# Altium footprint library QFP.PcbLib: 102 footprints (part 3 of 7)
Each footprint in its own frame and in the unit in brackets; x right, y up, seen from the top. Pads: shape width x height; smd on the part's side, far side on the other; paste and mask are expansions set on the pad; w line width, h text height; cw(c..) or ccw(c..) is an arc to the next point about the centre after c.
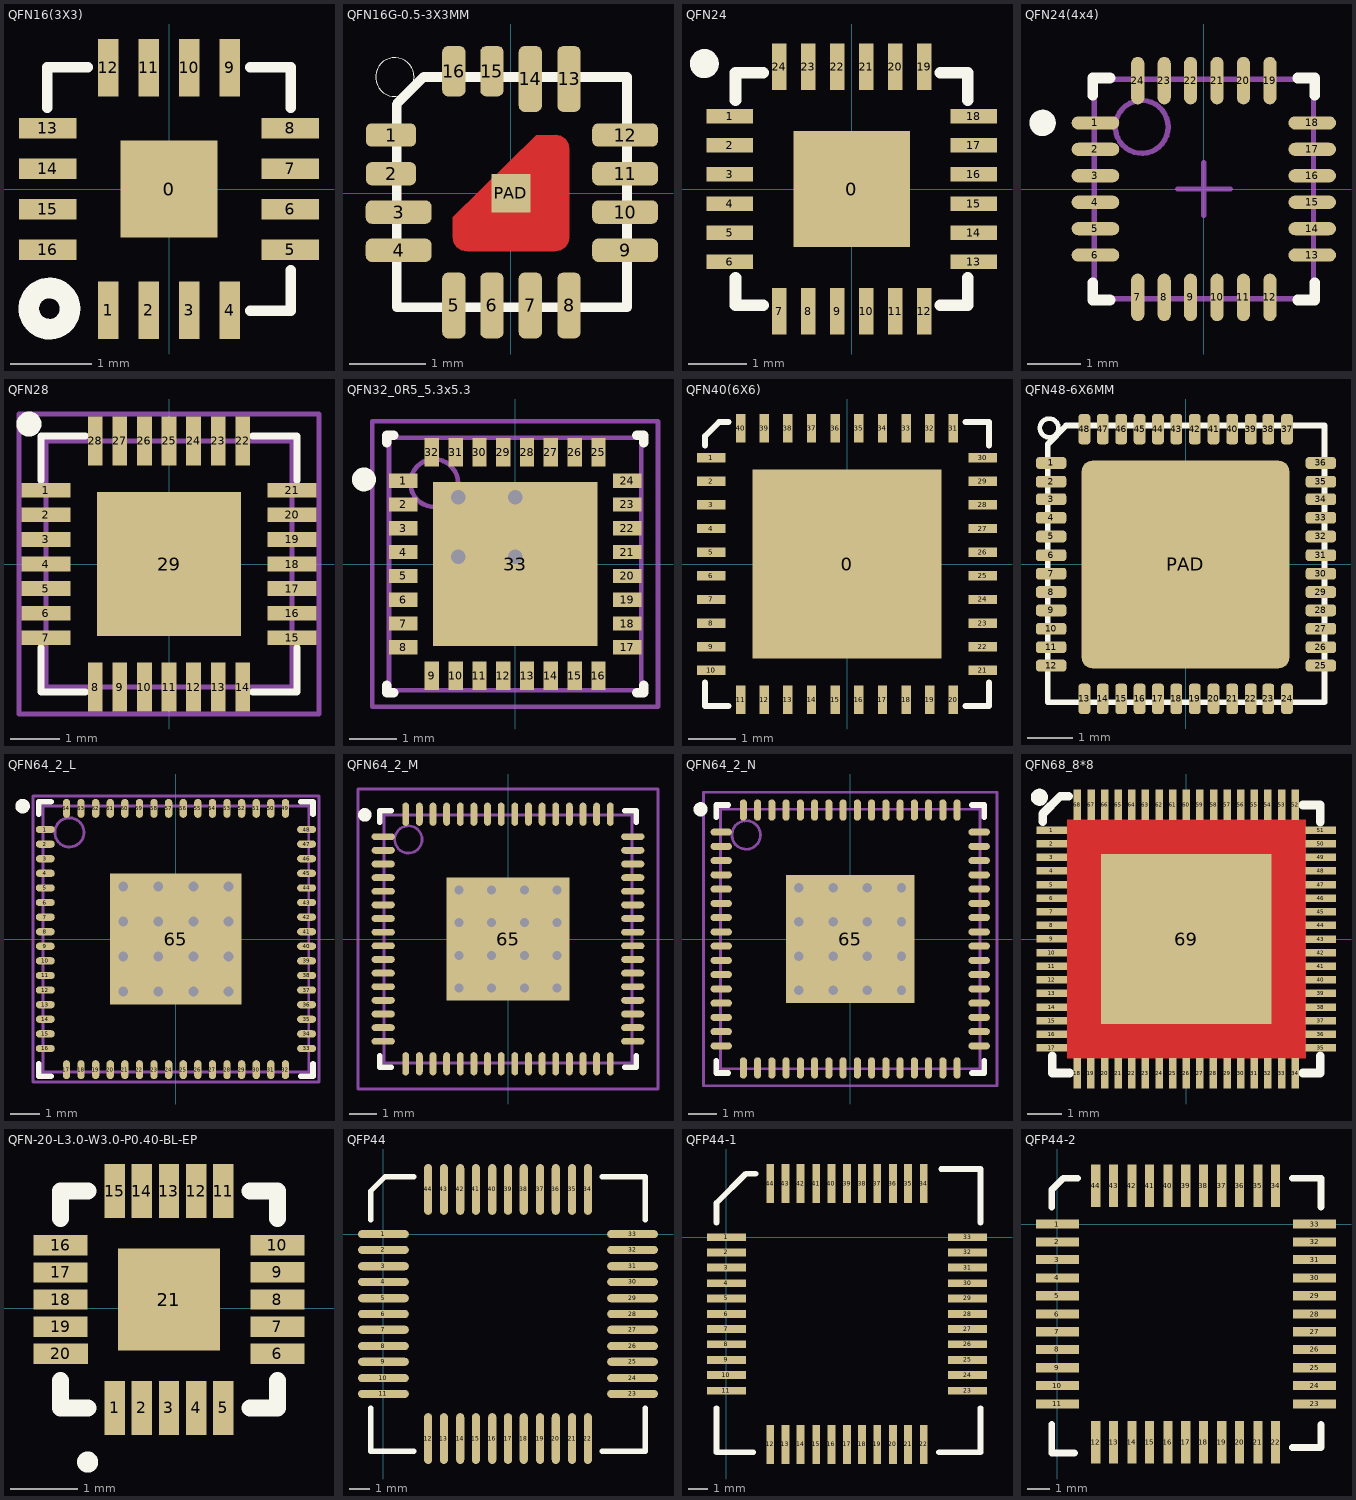
[diagram p2: the footprints below, top view; thin cyan lines are the x and y axes]

## QFN16(3X3) [mil]
pads (17):
  rect 47.24x47.24 smd: 0(0,0)
  rect 10x28 smd: 1(-29.53,-58.74) 2(-9.84,-58.74) 3(9.84,-58.74) 4(29.53,-58.74) 9(29.53,58.74) 10(9.84,58.74) 11(-9.84,58.74) 12(-29.53,58.74)
  rect 28x10 smd: 5(58.74,-29.53) 6(58.74,-9.84) 7(58.74,9.84) 8(58.74,29.53) 13(-58.74,29.53) 14(-58.74,9.84) 15(-58.74,-9.84) 16(-58.74,-29.53)
Top Overlay:
  circle w10: c-58,-58 r10
  lines w5: -59.06,39.37 -59.06,59.06 -39.37,59.06 ; 39.37,-59.06 59.06,-59.06 59.06,-39.37 ; 39.37,59.06 59.06,59.06 59.06,39.37

## QFN16G-0.5-3X3MM [mil] "QFN16G-0.5-3X3MM"
pads (17):
  rrect50% 26x12 smd: 1(-62.01,30) 2(-62.01,10)
  rrect50% 34x12 smd: 3(-58.07,-9.84) 4(-58.07,-29.53) 9(59,-29.53) 10(59,-9.84) 11(59,10) 12(59,30)
  rrect50% 12x34 smd: 5(-29.53,-58.07) 6(-9.84,-58.07) 7(10,-58.07) 8(30,-58.07) 13(30,59) 14(10,59)
  rrect50% 12x26 smd: 15(-9.84,63) 16(-29.53,63)
  rect 20x20 smd: PAD(0,0)
Top Layer:
  region: 15,30 23,30.14 25.73,29.59 28.05,28.05 29.59,25.73 30.14,23 30,23 30.13,-22.93 30.14,-22.96 29.59,-25.71 28.04,-28.04 25.71,-29.59 23,-30.13 23,-30 -22.93,-30.14 -25.69,-29.59 -28.03,-28.03 -29.59,-25.69 -30.14,-22.93 -30,-22.93 -30,-12.43 13,30
Top Overlay:
  circle w0: c-60,60 r10
  lines w5: -59.06,-59.06 60,-59.06 60,60 -45.14,60 -59.06,46 -59.06,-59.06
Top Solder:
  region: 13,30 23,30.14 25.73,29.59 28.05,28.05 29.59,25.73 30.14,23 30,23 30.13,-22.93 30.14,-22.96 29.59,-25.71 28.04,-28.04 25.71,-29.59 23,-30.13 23,-30 -22.93,-30.14 -25.69,-29.59 -28.03,-28.03 -29.59,-25.69 -30.14,-22.93 -30,-22.93 -30,-12.43
  region: -3.94,75 -3.62,52 -3.61,51.97 -4.87,48.93 -7.87,47.69 -7.87,48 -11.81,47.69 -14.82,48.93 -16.08,51.97 -16.06,52 -15.75,52 -16.06,75 -16.08,75.03 -14.82,78.07 -11.81,79.31 -11.81,79 -7.87,79.31 -4.87,78.07 -3.61,75.03 -3.62,75
  region: -23.62,75 -23.31,52 -23.29,51.97 -24.55,48.93 -27.56,47.69 -27.56,48 -31.5,47.69 -34.5,48.93 -35.76,51.97 -35.75,52 -35.43,52 -35.75,75 -35.76,75.03 -34.5,78.07 -31.5,79.31 -31.5,79 -27.56,79.31 -24.55,78.07 -23.29,75.03 -23.31,75
  region: -74.8,36 -51.18,36.31 -48.18,35.07 -46.92,32.03 -46.93,32 -47.24,32 -46.93,28 -46.92,27.97 -48.18,24.93 -51.18,23.69 -51.18,24 -74.81,23.69 -77.81,24.93 -79.07,27.97 -79.05,28 -78.74,28 -79.05,32 -79.07,32.03 -77.81,35.07 -74.81,36.31
  region: -74.8,16 -51.18,16.31 -48.18,15.07 -46.92,12.03 -46.93,12 -47.24,12 -46.93,8 -46.92,7.97 -48.18,4.93 -51.18,3.69 -51.18,4 -74.81,3.69 -77.81,4.93 -79.07,7.97 -79.05,8 -78.74,8 -79.05,12 -79.07,12.03 -77.81,15.07 -74.81,16.31
Mechanical 2:
Mechanical 4:

## QFN24 [mm]
pads (25):
  rect 2x2 smd: 0(0,0)
  rect 0.8x0.25 smd: 1(-2.101,1.25) 2(-2.101,0.75) 3(-2.101,0.25) 4(-2.101,-0.25) 5(-2.101,-0.75) 6(-2.101,-1.25) 13(2.101,-1.25) 14(2.101,-0.75) 15(2.101,-0.25) 16(2.101,0.25) 17(2.101,0.75) 18(2.101,1.25)
  rect 0.25x0.8 smd: 7(-1.25,-2.101) 8(-0.75,-2.101) 9(-0.25,-2.101) 10(0.25,-2.101) 11(0.75,-2.101) 12(1.25,-2.101) 19(1.25,2.101) 20(0.75,2.101) 21(0.25,2.101) 22(-0.25,2.101) 23(-0.75,2.101) 24(-1.25,2.101)
Top Overlay:
  circle w0.25: c-2.538,2.159 r0.125
  lines w0.2: -2,-1.525 -2,-2 -1.525,-2 ; -2,1.525 -2,2 -1.525,2 ; 1.525,-2 2,-2 2,-1.525 ; 1.525,2 2,2 2,1.525

## QFN24(4x4) [mm]
pads (24):
  oval 0.9x0.25 smd: 1(-2.05,1.25) 2(-2.05,0.75) 3(-2.05,0.25) 4(-2.05,-0.25) 5(-2.05,-0.75) 6(-2.05,-1.25) 13(2.05,-1.25) 14(2.05,-0.75) 15(2.05,-0.25) 16(2.05,0.25) 17(2.05,0.75) 18(2.05,1.25)
  oval 0.25x0.9 smd: 7(-1.25,-2.05) 8(-0.75,-2.05) 9(-0.25,-2.05) 10(0.25,-2.05) 11(0.75,-2.05) 12(1.25,-2.05) 19(1.25,2.05) 20(0.75,2.05) 21(0.25,2.05) 22(-0.25,2.05) 23(-0.75,2.05) 24(-1.25,2.05)
Top Overlay:
  circle w0.25: c-3.05,1.25 r0.125
  lines w0.2: -2.1,-1.775 -2.1,-2.1 -1.775,-2.1 ; -2.1,1.775 -2.1,2.1 -1.775,2.1 ; 1.775,-2.1 2.1,-2.1 2.1,-1.775 ; 1.775,2.1 2.1,2.1 2.1,1.775
Mechanical 13:
  circle w0.1: c-1.175,1.175 r0.5
  lines w0.1: -2.075,-2.075 -2.075,2.075 2.075,2.075 2.075,-2.075 -2.075,-2.075
Mechanical 15:
  lines w0.1: -0.5,0 0.5,0 ; 0,-0.5 0,0.5
3D body: height 1, standoff 0, extent -2.032,-2.118 2.118,2.032

## QFN28 [mm]
height 1
pads (29):
  rect 1x0.3 smd: 1(-2.5,1.5) 2(-2.5,1) 3(-2.5,0.5) 4(-2.5,0) 5(-2.5,-0.5) 6(-2.5,-1) 7(-2.5,-1.5) 15(2.5,-1.5) 16(2.5,-1) 17(2.5,-0.5) 18(2.5,0) 19(2.5,0.5) 20(2.5,1) 21(2.5,1.5)
  rect 0.3x1 smd: 8(-1.5,-2.5) 9(-1,-2.5) 10(-0.5,-2.5) 11(0,-2.5) 12(0.5,-2.5) 13(1,-2.5) 14(1.5,-2.5) 22(1.5,2.5) 23(1,2.5) 24(0.5,2.5) 25(0,2.5) 26(-0.5,2.5) 27(-1,2.5) 28(-1.5,2.5)
  rect 2.921x2.921 smd paste-3.2: 29(0,0)
Top Overlay:
  circle w0.254: c-2.844,2.844 r0.127
  lines w0.15: -2.6,-1.7 -2.6,-2.6 -1.7,-2.6 ; -2.6,1.7 -2.6,2.6 ; -2.591,2.6 -1.7,2.6 ; 1.7,-2.6 2.6,-2.6 2.6,-1.7 ; 1.7,2.6 2.6,2.6 2.6,1.7
Top Paste:
  region: 1.524,-0.381 1.524,0.381 0.762,0.381 0.762,-0.381
  region: -0.762,-0.381 -0.762,0.381 -1.524,0.381 -1.524,-0.381
  region: 0.381,-0.381 0.381,0.381 -0.381,0.381 -0.381,-0.381
  region: 1.524,-1.524 1.524,-0.762 0.762,-0.762 0.762,-1.524
  region: 0.381,-1.524 0.381,-0.762 -0.381,-0.762 -0.381,-1.524
  region: -1.524,-1.524 -0.762,-1.524 -0.762,-0.762 -1.524,-0.762
  region: -1.524,0.762 -0.762,0.762 -0.762,1.524 -1.524,1.524
  region: -0.381,1.524 -0.381,0.762 0.381,0.762 0.381,1.524
  region: 0.762,1.524 0.762,0.762 1.524,0.762 1.524,1.524
Mechanical 13:
  lines w0.1: -2.5,-2.5 2.5,-2.5 2.5,2.5 -2.5,2.5 -2.5,-2.5
Mechanical 15:
  lines w0.1: -0.5,0 0.5,0 ; 0,-0.5 0,0.5 ; -3.048,-3.048 3.048,-3.048 3.048,3.048 -3.048,3.048 -3.048,-3.048
3D body: height 1, standoff 0, extent -2.5,-2.5 2.5,2.5

## QFN32_0R5_5.3x5.3 [mm] "QFN, 32-Leads, Body 5.3x5.3mm (max), Pitch 0.50mm, IPC Medium Density"
height 1.6
pads (33):
  rect 0.6x0.3 smd: 1(-2.35,1.75) 2(-2.35,1.25) 3(-2.35,0.75) 4(-2.35,0.25) 5(-2.35,-0.25) 6(-2.35,-0.75) 7(-2.35,-1.25) 8(-2.35,-1.75) 17(2.35,-1.75) 18(2.35,-1.25) 19(2.35,-0.75) 20(2.35,-0.25) 21(2.35,0.25) 22(2.35,0.75) 23(2.35,1.25) 24(2.35,1.75)
  rect 0.3x0.6 smd: 9(-1.75,-2.35) 10(-1.25,-2.35) 11(-0.75,-2.35) 12(-0.25,-2.35) 13(0.25,-2.35) 14(0.75,-2.35) 15(1.25,-2.35) 16(1.75,-2.35) 25(1.75,2.35) 26(1.25,2.35) 27(0.75,2.35) 28(0.25,2.35) 29(-0.25,2.35) 30(-0.75,2.35) 31(-1.25,2.35) 32(-1.75,2.35)
  rect 3.45x3.45 smd: 33(0,0)
via -1.194,0.152 diameter 0.508 hole 0.305
via 0,0.152 diameter 0.508 hole 0.305
via -1.194,1.397 diameter 0.508 hole 0.305
via 0,1.397 diameter 0.508 hole 0.305
Top Overlay:
  circle w0.25: c-3.175,1.776 r0.125
  lines w0.2: -2.7,-2.55 -2.7,-2.7 -2.55,-2.7 ; -2.7,2.55 -2.7,2.7 -2.55,2.7 ; 2.55,-2.7 2.7,-2.7 2.7,-2.55 ; 2.55,2.7 2.7,2.7 2.7,2.55
Mechanical 13:
  circle w0.1: c-1.7,1.7 r0.5
  lines w0.1: -2.65,-2.65 -2.65,2.65 2.65,2.65 2.65,-2.65 -2.65,-2.65
Mechanical 15:
  lines w0.1: -0.5,0 0.5,0 ; 0,-0.5 0,0.5 ; -3,-3 -3,3 3,3 3,-3 -3,-3

## QFN40(6X6) [mm]
pads (41):
  rect 4x4 smd: 0(0,0)
  rect 0.6x0.2 smd: 1(-2.87,2.25) 2(-2.87,1.75) 3(-2.87,1.25) 4(-2.87,0.75) 5(-2.87,0.25) 6(-2.87,-0.25) 7(-2.87,-0.75) 8(-2.87,-1.25) 9(-2.87,-1.75) 10(-2.87,-2.25) 21(2.87,-2.25) 22(2.87,-1.75) 23(2.87,-1.25) 24(2.87,-0.75) 25(2.87,-0.25) 26(2.87,0.25) 27(2.87,0.75) 28(2.87,1.25) 29(2.87,1.75) 30(2.87,2.25)
  rect 0.2x0.6 smd: 11(-2.25,-2.87) 12(-1.75,-2.87) 13(-1.25,-2.87) 14(-0.75,-2.87) 15(-0.25,-2.87) 16(0.25,-2.87) 17(0.75,-2.87) 18(1.25,-2.87) 19(1.75,-2.87) 20(2.25,-2.87) 31(2.25,2.87) 32(1.75,2.87) 33(1.25,2.87) 34(0.75,2.87) 35(0.25,2.87) 36(-0.25,2.87) 37(-0.75,2.87) 38(-1.25,2.87) 39(-1.75,2.87) 40(-2.25,2.87)
Top Overlay:
  lines w0.127: -3,-2.5 -3,-3 -2.5,-3 ; -3,2.5 -3,2.7 -2.7,3 -2.5,3 ; 2.5,-3 3,-3 3,-2.5 ; 2.5,3 3,3 3,2.5

## QFN48-6X6MM [mil] "QFN48-6X6MM"
pads (49):
  rrect50% 26x10 smd: 1(-115.16,87) 2(-115.16,71) 3(-115.16,56) 4(-115.16,40) 5(-115.16,24) 6(-115.16,8) 7(-115.16,-7.87) 8(-115.16,-23.62) 9(-115.16,-39.37) 10(-115.16,-55.12) 11(-115.16,-70.87) 12(-115.16,-86.61) 25(116,-86.61) 26(116,-70.87) 27(116,-55.12) 28(116,-39.37) 29(116,-23.62) 30(116,-7.87) 31(116,8) 32(116,24) 33(116,40) 34(116,56) 35(116,71) 36(116,87)
  rrect50% 10x26 smd: 13(-86.61,-115.16) 14(-70.87,-115.16) 15(-55.12,-115.16) 16(-39.37,-115.16) 17(-23.62,-115.16) 18(-7.87,-115.16) 19(8,-115.16) 20(24,-115.16) 21(40,-115.16) 22(56,-115.16) 23(71,-115.16) 24(87,-115.16) 37(87,116) 38(71,116) 39(56,116) 40(40,116) 41(24,116) 42(8,116) 43(-7.87,116) 44(-23.62,116) 45(-39.37,116) 46(-55.12,116) 47(-70.87,116) 48(-86.61,116)
  rrect10% 178x178 smd: PAD(0,0)
Top Overlay:
  circle w4: c-116.89,117 r8
  lines w5: -118.11,-118.11 119,-118.11 119,119 -102.36,119 -118.11,103 -118.11,-118.11
Top Paste:
  region: -68.9,-33.46 -68.9,-68.9 -33.46,-68.9 -33.46,-33.46
  region: -68.68,69.22 -68.68,33.78 -33.68,33.78 -33.68,69.22
  region: 33.78,-33.68 33.78,-68.68 69.22,-68.68 69.22,-33.68
  region: 34,69 34,34 69,34 69,69
  region: -17.72,18 -17.72,-17.72 18,-17.72 18,18
Mechanical 2:
Mechanical 4:
  text ">VALUE" at -88.58,76 h18.6

## QFN64_2_L [mm] "QFN, 64-Leads, Body 9x9mm, Pitch 0.5mm, IPC High Density"
height 1
pads (65):
  oval 0.65x0.25 smd: 1(-4.475,3.75) 2(-4.475,3.25) 3(-4.475,2.75) 4(-4.475,2.25) 5(-4.475,1.75) 6(-4.475,1.25) 7(-4.475,0.75) 8(-4.475,0.25) 9(-4.475,-0.25) 10(-4.475,-0.75) 11(-4.475,-1.25) 12(-4.475,-1.75) 13(-4.475,-2.25) 14(-4.475,-2.75) 15(-4.475,-3.25) 16(-4.475,-3.75) 33(4.475,-3.75) 34(4.475,-3.25) 35(4.475,-2.75) 36(4.475,-2.25) 37(4.475,-1.75) 38(4.475,-1.25) 39(4.475,-0.75) 40(4.475,-0.25) 41(4.475,0.25) 42(4.475,0.75) 43(4.475,1.25) 44(4.475,1.75) 45(4.475,2.25) 46(4.475,2.75) 47(4.475,3.25) 48(4.475,3.75)
  oval 0.25x0.65 smd: 17(-3.75,-4.475) 18(-3.25,-4.475) 19(-2.75,-4.475) 20(-2.25,-4.475) 21(-1.75,-4.475) 22(-1.25,-4.475) 23(-0.75,-4.475) 24(-0.25,-4.475) 25(0.25,-4.475) 26(0.75,-4.475) 27(1.25,-4.475) 28(1.75,-4.475) 29(2.25,-4.475) 30(2.75,-4.475) 31(3.25,-4.475) 32(3.75,-4.475) 49(3.75,4.475) 50(3.25,4.475) 51(2.75,4.475) 52(2.25,4.475) 53(1.75,4.475) 54(1.25,4.475) 55(0.75,4.475) 56(0.25,4.475) 57(-0.25,4.475) 58(-0.75,4.475) 59(-1.25,4.475) 60(-1.75,4.475) 61(-2.25,4.475) 62(-2.75,4.475) 63(-3.25,4.475) 64(-3.75,4.475)
  rect 4.5x4.5 smd: 65(0,0)
via 1.8,-1.8 diameter 0.66 hole 0.33
via 0.6,-1.8 diameter 0.66 hole 0.33
via -0.6,-1.8 diameter 0.66 hole 0.33
via -1.8,-1.8 diameter 0.66 hole 0.33
via 1.8,-0.6 diameter 0.66 hole 0.33
via 0.6,-0.6 diameter 0.66 hole 0.33
via -0.6,-0.6 diameter 0.66 hole 0.33
via -1.8,-0.6 diameter 0.66 hole 0.33
via 1.8,0.6 diameter 0.66 hole 0.33
via 0.6,0.6 diameter 0.66 hole 0.33
via -0.6,0.6 diameter 0.66 hole 0.33
via -1.8,0.6 diameter 0.66 hole 0.33
via 1.8,1.8 diameter 0.66 hole 0.33
via 0.6,1.8 diameter 0.66 hole 0.33
via -0.6,1.8 diameter 0.66 hole 0.33
via -1.8,1.8 diameter 0.66 hole 0.33
Top Overlay:
  circle w0.25: c-5.25,4.55 r0.125
  lines w0.2: -4.7,-4.275 -4.7,-4.7 -4.275,-4.7 ; -4.7,4.275 -4.7,4.7 -4.275,4.7 ; 4.275,-4.7 4.7,-4.7 4.7,-4.275 ; 4.275,4.7 4.7,4.7 4.7,4.275
Mechanical 13:
  circle w0.1: c-3.65,3.65 r0.5
  lines w0.1: -4.55,-4.55 4.55,-4.55 4.55,4.55 -4.55,4.55 -4.55,-4.55
Mechanical 15:
  lines w0.1: -0.5,0 0.5,0 ; 0,-0.5 0,0.5 ; -4.9,-4.9 4.9,-4.9 4.9,4.9 -4.9,4.9 -4.9,-4.9
3D body: height 1, standoff 0, extent -4.549,-4.549 4.55,4.55

## QFN64_2_M [mm] "QFN, 64-Leads, Body 9x9mm, Pitch 0.5mm, IPC Low Density"
height 1
pads (65):
  oval 0.85x0.25 smd: 1(-4.575,3.75) 2(-4.575,3.25) 3(-4.575,2.75) 4(-4.575,2.25) 5(-4.575,1.75) 6(-4.575,1.25) 7(-4.575,0.75) 8(-4.575,0.25) 9(-4.575,-0.25) 10(-4.575,-0.75) 11(-4.575,-1.25) 12(-4.575,-1.75) 13(-4.575,-2.25) 14(-4.575,-2.75) 15(-4.575,-3.25) 16(-4.575,-3.75) 33(4.575,-3.75) 34(4.575,-3.25) 35(4.575,-2.75) 36(4.575,-2.25) 37(4.575,-1.75) 38(4.575,-1.25) 39(4.575,-0.75) 40(4.575,-0.25) 41(4.575,0.25) 42(4.575,0.75) 43(4.575,1.25) 44(4.575,1.75) 45(4.575,2.25) 46(4.575,2.75) 47(4.575,3.25) 48(4.575,3.75)
  oval 0.25x0.85 smd: 17(-3.75,-4.575) 18(-3.25,-4.575) 19(-2.75,-4.575) 20(-2.25,-4.575) 21(-1.75,-4.575) 22(-1.25,-4.575) 23(-0.75,-4.575) 24(-0.25,-4.575) 25(0.25,-4.575) 26(0.75,-4.575) 27(1.25,-4.575) 28(1.75,-4.575) 29(2.25,-4.575) 30(2.75,-4.575) 31(3.25,-4.575) 32(3.75,-4.575) 49(3.75,4.575) 50(3.25,4.575) 51(2.75,4.575) 52(2.25,4.575) 53(1.75,4.575) 54(1.25,4.575) 55(0.75,4.575) 56(0.25,4.575) 57(-0.25,4.575) 58(-0.75,4.575) 59(-1.25,4.575) 60(-1.75,4.575) 61(-2.25,4.575) 62(-2.75,4.575) 63(-3.25,4.575) 64(-3.75,4.575)
  rect 4.5x4.5 smd: 65(0,0)
via -1.8,1.8 diameter 0.66 hole 0.33
via -0.6,1.8 diameter 0.66 hole 0.33
via 0.6,1.8 diameter 0.66 hole 0.33
via 1.8,1.8 diameter 0.66 hole 0.33
via -1.8,0.6 diameter 0.66 hole 0.33
via -0.6,0.6 diameter 0.66 hole 0.33
via 0.6,0.6 diameter 0.66 hole 0.33
via 1.8,0.6 diameter 0.66 hole 0.33
via -1.8,-0.6 diameter 0.66 hole 0.33
via -0.6,-0.6 diameter 0.66 hole 0.33
via 0.6,-0.6 diameter 0.66 hole 0.33
via 1.8,-0.6 diameter 0.66 hole 0.33
via -1.8,-1.8 diameter 0.66 hole 0.33
via -0.6,-1.8 diameter 0.66 hole 0.33
via 0.6,-1.8 diameter 0.66 hole 0.33
via 1.8,-1.8 diameter 0.66 hole 0.33
Top Overlay:
  circle w0.25: c-5.25,4.55 r0.125
  lines w0.2: -4.7,-4.275 -4.7,-4.7 -4.275,-4.7 ; -4.7,4.275 -4.7,4.7 -4.275,4.7 ; 4.275,-4.7 4.7,-4.7 4.7,-4.275 ; 4.275,4.7 4.7,4.7 4.7,4.275
Mechanical 13:
  circle w0.1: c-3.65,3.65 r0.5
  lines w0.1: -4.55,-4.55 -4.55,4.55 4.55,4.55 4.55,-4.55 -4.55,-4.55
Mechanical 15:
  lines w0.1: -0.5,0 0.5,0 ; 0,-0.5 0,0.5 ; -5.5,-5.5 -5.5,5.5 5.5,5.5 5.5,-5.5 -5.5,-5.5
3D body: height 1, standoff 0, extent -4.549,-4.549 4.549,4.549

## QFN64_2_N [mm] "QFN, 64-Leads, Body 9x9mm, Pitch 0.5mm, IPC Medium Density"
height 1
pads (65):
  oval 0.75x0.25 smd: 1(-4.525,3.75) 2(-4.525,3.25) 3(-4.525,2.75) 4(-4.525,2.25) 5(-4.525,1.75) 6(-4.525,1.25) 7(-4.525,0.75) 8(-4.525,0.25) 9(-4.525,-0.25) 10(-4.525,-0.75) 11(-4.525,-1.25) 12(-4.525,-1.75) 13(-4.525,-2.25) 14(-4.525,-2.75) 15(-4.525,-3.25) 16(-4.525,-3.75) 33(4.525,-3.75) 34(4.525,-3.25) 35(4.525,-2.75) 36(4.525,-2.25) 37(4.525,-1.75) 38(4.525,-1.25) 39(4.525,-0.75) 40(4.525,-0.25) 41(4.525,0.25) 42(4.525,0.75) 43(4.525,1.25) 44(4.525,1.75) 45(4.525,2.25) 46(4.525,2.75) 47(4.525,3.25) 48(4.525,3.75)
  oval 0.25x0.75 smd: 17(-3.75,-4.525) 18(-3.25,-4.525) 19(-2.75,-4.525) 20(-2.25,-4.525) 21(-1.75,-4.525) 22(-1.25,-4.525) 23(-0.75,-4.525) 24(-0.25,-4.525) 25(0.25,-4.525) 26(0.75,-4.525) 27(1.25,-4.525) 28(1.75,-4.525) 29(2.25,-4.525) 30(2.75,-4.525) 31(3.25,-4.525) 32(3.75,-4.525) 49(3.75,4.525) 50(3.25,4.525) 51(2.75,4.525) 52(2.25,4.525) 53(1.75,4.525) 54(1.25,4.525) 55(0.75,4.525) 56(0.25,4.525) 57(-0.25,4.525) 58(-0.75,4.525) 59(-1.25,4.525) 60(-1.75,4.525) 61(-2.25,4.525) 62(-2.75,4.525) 63(-3.25,4.525) 64(-3.75,4.525)
  rect 4.5x4.5 smd: 65(0,0)
via 1.8,-1.8 diameter 0.66 hole 0.33
via 0.6,-1.8 diameter 0.66 hole 0.33
via -0.6,-1.8 diameter 0.66 hole 0.33
via -1.8,-1.8 diameter 0.66 hole 0.33
via 1.8,-0.6 diameter 0.66 hole 0.33
via 0.6,-0.6 diameter 0.66 hole 0.33
via -0.6,-0.6 diameter 0.66 hole 0.33
via -1.8,-0.6 diameter 0.66 hole 0.33
via 1.8,0.6 diameter 0.66 hole 0.33
via 0.6,0.6 diameter 0.66 hole 0.33
via -0.6,0.6 diameter 0.66 hole 0.33
via -1.8,0.6 diameter 0.66 hole 0.33
via 1.8,1.8 diameter 0.66 hole 0.33
via 0.6,1.8 diameter 0.66 hole 0.33
via -0.6,1.8 diameter 0.66 hole 0.33
via -1.8,1.8 diameter 0.66 hole 0.33
Top Overlay:
  circle w0.25: c-5.25,4.55 r0.125
  lines w0.2: -4.7,-4.275 -4.7,-4.7 -4.275,-4.7 ; -4.7,4.275 -4.7,4.7 -4.275,4.7 ; 4.275,-4.7 4.7,-4.7 4.7,-4.275 ; 4.275,4.7 4.7,4.7 4.7,4.275
Mechanical 13:
  circle w0.1: c-3.65,3.65 r0.5
  lines w0.1: -4.55,-4.55 -4.55,4.55 4.55,4.55 4.55,-4.55 -4.55,-4.55
Mechanical 15:
  lines w0.1: -0.5,0 0.5,0 ; 0,-0.5 0,0.5 ; -5.15,-5.15 5.15,-5.15 5.15,5.15 -5.15,5.15 -5.15,-5.15
3D body: height 1, standoff 0, extent -4.549,-4.549 4.55,4.55

## QFN68_8*8 [mil]
pads (69):
  rect 35.44x8.66 smd: 1(-155.5,126) 2(-155.5,110.25) 3(-155.5,94.5) 4(-155.5,78.76) 5(-155.5,63.01) 6(-155.5,47.26) 7(-155.5,31.51) 8(-155.5,15.76) 9(-155.5,0.02) 10(-155.5,-15.73) 11(-155.5,-31.48) 12(-155.5,-47.23) 13(-155.5,-62.98) 14(-155.5,-78.72) 15(-155.5,-94.47) 16(-155.5,-110.22) 17(-155.5,-125.97) 35(155.5,-126) 36(155.5,-110.25) 37(155.5,-94.5) 38(155.5,-78.76) 39(155.5,-63.01) 40(155.5,-47.26) 41(155.5,-31.51) 42(155.5,-15.76) 43(155.5,-0.02) 44(155.5,15.73) 45(155.5,31.48) 46(155.5,47.23) 47(155.5,62.98) 48(155.5,78.72) 49(155.5,94.47) 50(155.5,110.22) 51(155.5,125.97)
  rect 8.66x35.44 smd: 18(-126,-155.5) 19(-110.25,-155.5) 20(-94.5,-155.5) 21(-78.76,-155.5) 22(-63.01,-155.5) 23(-47.26,-155.5) 24(-31.51,-155.5) 25(-15.76,-155.5) 26(-0.02,-155.5) 27(15.73,-155.5) 28(31.48,-155.5) 29(47.23,-155.5) 30(62.98,-155.5) 31(78.72,-155.5) 32(94.47,-155.5) 33(110.22,-155.5) 34(126,-155.5) 52(126,155.5) 53(110.25,155.5) 54(94.5,155.5) 55(78.76,155.5) 56(63.01,155.5) 57(47.26,155.5) 58(31.51,155.5) 59(15.76,155.5) 60(0.02,155.5) 61(-15.73,155.5) 62(-31.48,155.5) 63(-47.23,155.5) 64(-62.98,155.5) 65(-78.72,155.5) 66(-94.47,155.5) 67(-110.22,155.5) 68(-125.97,155.5)
  rect 196.85x196.85 smd: 69(0,0)
Top Layer:
  pour cut-out: -138,138 138,138 138,-138 -138,-138
Top Overlay:
  circle w11.81: c-169.94,164 r3.94
  lines w10: -166,136 -166,145 -146,165 -136,165 ; -155,-135 -155,-155 -135,-155 ; 135,-155 155,-155 155,-135 ; 135,155 155,155 155,135

## QFN-20-L3.0-W3.0-P0.40-BL-EP [mil]
pads (21):
  rect 11.82x31.5 smd: 1(-131.49,-57.99) 2(-115.74,-57.99) 3(-100,-57.99) 4(-84.25,-57.99) 11(-68.5,68) 12(-84.25,68) 13(-100,68) 14(-115.74,68) 15(-131.49,68)
  rect 11.81x31.5 smd: 5(-68.49,-57.99)
  rect 31.5x11.82 smd: 6(-37,-26.49) 7(-37,-10.74) 8(-37,5) 9(-37,20.75) 10(-37,36.5)
  rect 31.5x11.81 smd: 16(-162.99,36.49) 17(-162.99,20.74) 18(-162.99,5) 19(-162.99,-10.75) 20(-162.91,-26.56)
  rect 59.06x59.06 smd: 21(-100,5)
Top Overlay:
  circle w10: c-147.24,-89.48 r1.11
  lines w10: -162.99,-42.24 -162.99,-57.99 -147.24,-57.99 ; -162.99,52.25 -162.99,68 -147.24,68 ; -52.75,-57.99 -37,-57.99 -37,-42.24 ; -52.75,68 -37,68 -37,52.25
Mechanical 15:
  lines w0.1: -101,8.21 -99,10.21

## QFP44 [mil]
pads (44):
  oval 100x16 smd: 1(0,0) 2(0,-31) 3(0,-63) 4(0,-94) 5(0,-126) 6(0,-157) 7(0,-188) 8(0,-220) 9(0,-251) 10(0,-283) 11(0,-314) 23(490,-314) 24(490,-283) 25(490,-251) 26(490,-220) 27(490,-188) 28(490,-157) 29(490,-126) 30(490,-94) 31(490,-63) 32(490,-31) 33(490,0)
  oval 16x100 smd: 12(88,-402) 13(119,-402) 14(151,-402) 15(182,-402) 16(214,-402) 17(245,-402) 18(276,-402) 19(308,-402) 20(339,-402) 21(371,-402) 22(402,-402) 34(402,88) 35(371,88) 36(339,88) 37(308,88) 38(276,88) 39(245,88) 40(214,88) 41(182,88) 42(151,88) 43(119,88) 44(88,88)
Top Overlay:
  lines w10: -25,-342 -25,-427 60,-427 ; -25,28 -25,85 3,113 60,113 ; 430,-427 515,-427 515,-342 ; 430,113 515,113 515,28

## QFP44-1 [mil]
pads (44):
  rect 80x16 smd: 1(0,0) 2(0,-31) 3(0,-62) 4(0,-94) 5(0,-125) 6(0,-157) 7(0,-188) 8(0,-219) 9(0,-251) 10(0,-282) 11(0,-314) 23(494,-314) 24(494,-282) 25(494,-251) 26(494,-219) 27(494,-188) 28(494,-157) 29(494,-125) 30(494,-94) 31(494,-62) 32(494,-31) 33(494,0)
  rect 16x80 smd: 12(90,-424) 13(121,-424) 14(152,-424) 15(184,-424) 16(215,-424) 17(247,-424) 18(278,-424) 19(309,-424) 20(341,-424) 21(372,-424) 22(404,-424) 34(404,110) 35(372,110) 36(341,110) 37(309,110) 38(278,110) 39(247,110) 40(215,110) 41(184,110) 42(152,110) 43(121,110) 44(90,110)
Top Overlay:
  lines w12: -20,-350 -20,-440 55,-440 ; -20,30 -20,70 40,130 60,130 ; 435,-440 520,-440 520,-350 ; 440,140 520,140 520,30

## QFP44-2 [mil]
pads (44):
  rect 75x16 smd: 1(0,0) 2(0,-31) 3(0,-62) 4(0,-94) 5(0,-125) 6(0,-157) 7(0,-188) 8(0,-219) 9(0,-251) 10(0,-282) 11(0,-314) 23(449,-314) 24(449,-282) 25(449,-251) 26(449,-219) 27(449,-188) 28(449,-157) 29(449,-125) 30(449,-94) 31(449,-62) 32(449,-31) 33(449,0)
  rect 16x75 smd: 12(67,-381) 13(98,-381) 14(130,-381) 15(161,-381) 16(193,-381) 17(224,-381) 18(255,-381) 19(287,-381) 20(318,-381) 21(350,-381) 22(381,-381) 34(381,67) 35(350,67) 36(318,67) 37(287,67) 38(255,67) 39(224,67) 40(193,67) 41(161,67) 42(130,67) 43(98,67) 44(67,67)
Top Overlay:
  lines w12: -10,-350 -10,-400 30,-400 ; -10,30 -10,60 10,80 35,80 ; 410,-390 460,-390 460,-350 ; 410,80 460,80 460,30